# Altium footprint library 2020-01-28_00-34-26.PcbLib: 3 footprints
Each footprint in its own frame and in the unit in brackets; x right, y up, seen from the top. Pads: shape width x height; smd on the part's side, far side on the other; paste and mask are expansions set on the pad; w line width, h text height; cw(c..) or ccw(c..) is an arc to the next point about the centre after c.
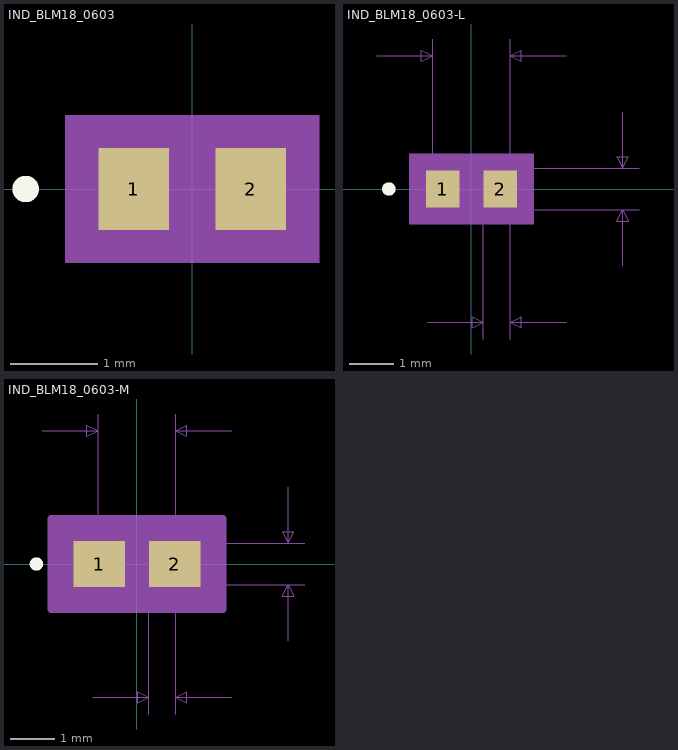
[diagram p0: the footprints below, top view; thin cyan lines are the x and y axes]

## IND_BLM18_0603 [mil]
pads (2):
  rect 32x37 smd: 1(-26.5,0) 2(26.5,0)
Top Overlay:
  circle w6: c-75.5,0 r3
Mechanical 5:
  region: 57.5,-33.5 -57.5,-33.5 -57.5,33.5 57.5,33.5
Mechanical 13:
  circle w0: c-21.5,0 r3
  lines w1: -34.5,-18.5 -34.5,18.5 ; -34.5,-18.5 34.5,-18.5 ; -34.5,-18.5 -10.5,-18.5 -10.5,18.5 -34.5,18.5 ; -34.5,-18.5 -34.5,18.5 ; -34.5,18.5 34.5,18.5 ; 34.5,-18.5 34.5,18.5 ; 34.5,-18.5 34.5,18.5 ; 34.5,-18.5 10.5,-18.5 10.5,18.5 34.5,18.5
Mechanical 15:
  region: 52.5,-28.5 -52.5,-28.5 -52.5,28.5 52.5,28.5
  lines w6: -52.5,-28.5 52.5,-28.5 52.5,28.5 -52.5,28.5 -52.5,-28.5
3D body: height 10, standoff 0, extent 0,0 10,10

## IND_BLM18_0603-L [mil]
pads (2):
  rect 30x33 smd paste+0 mask+0: 1(-25.5,0) 2(25.5,0)
Top Overlay:
  circle w6: c-73.5,0 r3
Mechanical 5:
  region: 55.5,-31.5 -55.5,-31.5 -55.5,31.5 55.5,31.5
Mechanical 7:
  lines w1: -84.5,118.5 -34.5,118.5 ; -39.5,-118.5 10.5,-118.5 ; -34.5,0 -34.5,133.5 ; 0,-18.5 149.5,-18.5 ; 0,18.5 149.5,18.5 ; 10.5,-133.5 10.5,0 ; 34.5,-133.5 34.5,0 34.5,133.5 ; 84.5,-118.5 34.5,-118.5 ; 84.5,118.5 34.5,118.5 ; 134.5,-68.5 134.5,-18.5 ; 134.5,68.5 134.5,18.5 ; -34.5,118.5 -44.5,123.5 -44.5,113.5 -34.5,118.5 ; 10.5,-118.5 0.5,-113.5 0.5,-123.5 10.5,-118.5 ; 34.5,-118.5 44.5,-113.5 44.5,-123.5 34.5,-118.5 ; 34.5,118.5 44.5,123.5 44.5,113.5 34.5,118.5 ; 134.5,-18.5 129.5,-28.5 139.5,-28.5 134.5,-18.5 ; 134.5,18.5 129.5,28.5 139.5,28.5 134.5,18.5
  text "Default Padstyle: RX30Y33D0T" at -350,-286.5 h50
  text "Alt 1 Padstyle: OX60Y90D30P" at -337.5,-346.5 h50
  text "Alt 2 Padstyle: OX90Y60D30P" at -337.5,-406.5 h50
  text "0.037in/0.94mm" at 154.5,-12.5 h25
  text "0.069in/1.753mm" at -93.75,138.5 h25
  text "0.024in/0.61mm" at -65,-163.5 h25
Mechanical 13:
  circle w0: c-20.5,0 r3
  lines w1: -34.5,-18.5 -34.5,18.5 ; -34.5,-18.5 -10.5,-18.5 -10.5,18.5 -34.5,18.5 ; -34.5,-18.5 34.5,-18.5 ; -34.5,-18.5 -34.5,18.5 ; -34.5,18.5 34.5,18.5 ; 34.5,-18.5 10.5,-18.5 10.5,18.5 34.5,18.5 ; 34.5,-18.5 34.5,18.5 ; 34.5,-18.5 34.5,18.5
Mechanical 15:
  region: 44.5,-20.5 -44.5,-20.5 -44.5,20.5 44.5,20.5
  lines w6: -44.5,-20.5 -44.5,20.5 44.5,20.5 44.5,-20.5 -44.5,-20.5
3D body: height 10, standoff 0, extent 0,0 10,10

## IND_BLM18_0603-M [mil]
pads (2):
  rect 46x41 smd paste+0 mask+0: 1(-33.5,0) 2(33.5,0)
Top Overlay:
  circle w6: c-89.5,0 r3
Mechanical 5:
  region: 71.5,-35.5 -71.5,-35.5 -71.5,35.5 71.5,35.5
Mechanical 7:
  lines w1: -84.5,118.5 -34.5,118.5 ; -39.5,-118.5 10.5,-118.5 ; -34.5,0 -34.5,133.5 ; 0,-18.5 149.5,-18.5 ; 0,18.5 149.5,18.5 ; 10.5,-133.5 10.5,0 ; 34.5,-133.5 34.5,0 34.5,133.5 ; 84.5,-118.5 34.5,-118.5 ; 84.5,118.5 34.5,118.5 ; 134.5,-68.5 134.5,-18.5 ; 134.5,68.5 134.5,18.5 ; -34.5,118.5 -44.5,123.5 -44.5,113.5 -34.5,118.5 ; 10.5,-118.5 0.5,-113.5 0.5,-123.5 10.5,-118.5 ; 34.5,-118.5 44.5,-113.5 44.5,-123.5 34.5,-118.5 ; 34.5,118.5 44.5,123.5 44.5,113.5 34.5,118.5 ; 134.5,-18.5 129.5,-28.5 139.5,-28.5 134.5,-18.5 ; 134.5,18.5 129.5,28.5 139.5,28.5 134.5,18.5
  text "Default Padstyle: RX46Y41D0T" at -350,-290.5 h50
  text "Alt 1 Padstyle: OX60Y90D30P" at -337.5,-350.5 h50
  text "Alt 2 Padstyle: OX90Y60D30P" at -337.5,-410.5 h50
  text "0.037in/0.94mm" at 154.5,-12.5 h25
  text "0.069in/1.753mm" at -93.75,138.5 h25
  text "0.024in/0.61mm" at -65,-163.5 h25
Mechanical 13:
  circle w0: c-28.5,0 r3
  lines w1: -34.5,-18.5 -34.5,18.5 ; -34.5,-18.5 -10.5,-18.5 -10.5,18.5 -34.5,18.5 ; -34.5,-18.5 34.5,-18.5 ; -34.5,-18.5 -34.5,18.5 ; -34.5,18.5 34.5,18.5 ; 34.5,-18.5 10.5,-18.5 10.5,18.5 34.5,18.5 ; 34.5,-18.5 34.5,18.5 ; 34.5,-18.5 34.5,18.5
Mechanical 15:
  region: 76.5,-40.5 -76.5,-40.5 -76.5,40.5 76.5,40.5
  lines w6: -76.5,-40.5 -76.5,40.5 76.5,40.5 76.5,-40.5 -76.5,-40.5
3D body: height 10, standoff 0, extent 0,0 10,10